# EAGLE library part AT24CXX (library memory-atmel)
EEPROM SPI bus serial
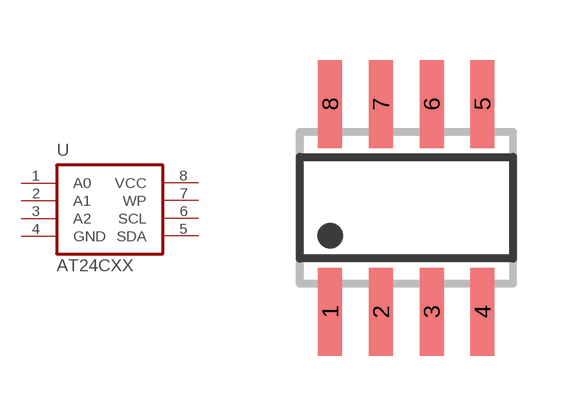
[diagram p7: symbol with the pads of SO08-8S1; footprint SO08-8S1]

Designator prefix U

## AT24CXX  [SO08-8S1]
1  A0  in
2  A1  in
3  A2  in
4  GND  pwr
5  SDA
6  SCL
7  WP
8  VCC  pwr

## Footprint SO08-8S1 (pad centres in mm)
SMALL OUTLINE INTEGRATED CIRCUIT 8S1, body 3.9 mm/JEDEC MS-012AA
smd 0.6 x 2.2: 1 -1.905,-2.6; 2 -0.635,-2.6; 3 0.635,-2.6; 4 1.905,-2.6; 5 1.905,2.6; 6 0.635,2.6; 7 -0.635,2.6; 8 -1.905,2.6